# EAGLE library part PGA2040 (library pimoroni-boards)
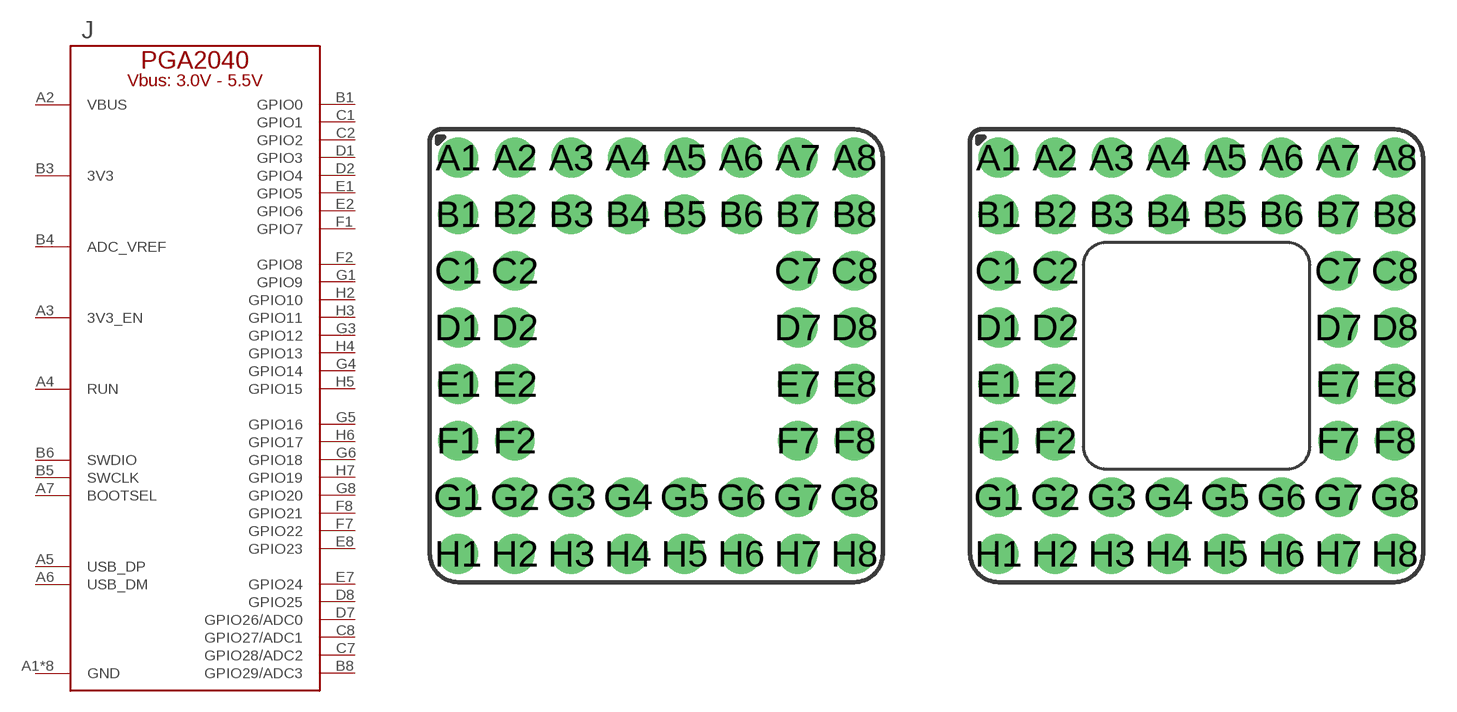
[diagram p1: symbol with the pads of PGA2040_PTH_NO_SLOT; footprints PGA2040_PTH_NO_SLOT, PGA2040_PTH_WITH_SLOT]

Designator prefix J

## PGA2040_PTH_NO_SLOT  [PGA2040_PTH_NO_SLOT]
A1  GND
A2  VBUS
A3  3V3_EN
A4  RUN
A5  USB_DP
A6  USB_DM
A7  BOOTSEL
A8  GND
B1  GPIO0
B2  GND
B3  3V3
B4  ADC_VREF
B5  SWCLK
B6  SWDIO
B7  GND
B8  GPIO29/ADC3
C1  GPIO1
C2  GPIO2
C7  GPIO28/ADC2
C8  GPIO27/ADC1
D1  GPIO3
D2  GPIO4
D7  GPIO26/ADC0
D8  GPIO25
E1  GPIO5
E2  GPIO6
E7  GPIO24
E8  GPIO23
F1  GPIO7
F2  GPIO8
F7  GPIO22
F8  GPIO21
G1  GPIO9
G2  GND
G3  GPIO12
G4  GPIO14
G5  GPIO16
G6  GPIO18
G7  GND
G8  GPIO20
H1  GND
H2  GPIO10
H3  GPIO11
H4  GPIO13
H5  GPIO15
H6  GPIO17
H7  GPIO19
H8  GND

## PGA2040_PTH_WITH_SLOT  [PGA2040_PTH_WITH_SLOT]
Pads as for PGA2040_PTH_NO_SLOT

## PGA2040_SMT_WITH_SLOT  [PGA2040_SMT_WITH_SLOT]
Pads as for PGA2040_PTH_NO_SLOT

## Footprint PGA2040_PTH_NO_SLOT (pad centres in mm)
drill 1.016 pad 1.778: A1 -8.89,8.89; A2 -6.35,8.89; A3 -3.81,8.89; A4 -1.27,8.89; A5 1.27,8.89; A6 3.81,8.89; A7 6.35,8.89; A8 8.89,8.89; B1 -8.89,6.35; B2 -6.35,6.35; B3 -3.81,6.35; B4 -1.27,6.35; B5 1.27,6.35; B6 3.81,6.35; B7 6.35,6.35; B8 8.89,6.35; C1 -8.89,3.81; C2 -6.35,3.81; C7 6.35,3.81; C8 8.89,3.81; D1 -8.89,1.27; D2 -6.35,1.27; D7 6.35,1.27; D8 8.89,1.27; E1 -8.89,-1.27; E2 -6.35,-1.27; E7 6.35,-1.27; E8 8.89,-1.27; F1 -8.89,-3.81; F2 -6.35,-3.81; F7 6.35,-3.81; F8 8.89,-3.81; G1 -8.89,-6.35; G2 -6.35,-6.35; G3 -3.81,-6.35; G4 -1.27,-6.35; G5 1.27,-6.35; G6 3.81,-6.35; G7 6.35,-6.35; G8 8.89,-6.35; H1 -8.89,-8.89; H2 -6.35,-8.89; H3 -3.81,-8.89; H4 -1.27,-8.89; H5 1.27,-8.89; H6 3.81,-8.89; H7 6.35,-8.89; H8 8.89,-8.89

## Footprint PGA2040_PTH_WITH_SLOT (pad centres in mm)
drill 1.016 pad 1.778: A1 -8.89,8.89; A2 -6.35,8.89; A3 -3.81,8.89; A4 -1.27,8.89; A5 1.27,8.89; A6 3.81,8.89; A7 6.35,8.89; A8 8.89,8.89; B1 -8.89,6.35; B2 -6.35,6.35; B3 -3.81,6.35; B4 -1.27,6.35; B5 1.27,6.35; B6 3.81,6.35; B7 6.35,6.35; B8 8.89,6.35; C1 -8.89,3.81; C2 -6.35,3.81; C7 6.35,3.81; C8 8.89,3.81; D1 -8.89,1.27; D2 -6.35,1.27; D7 6.35,1.27; D8 8.89,1.27; E1 -8.89,-1.27; E2 -6.35,-1.27; E7 6.35,-1.27; E8 8.89,-1.27; F1 -8.89,-3.81; F2 -6.35,-3.81; F7 6.35,-3.81; F8 8.89,-3.81; G1 -8.89,-6.35; G2 -6.35,-6.35; G3 -3.81,-6.35; G4 -1.27,-6.35; G5 1.27,-6.35; G6 3.81,-6.35; G7 6.35,-6.35; G8 8.89,-6.35; H1 -8.89,-8.89; H2 -6.35,-8.89; H3 -3.81,-8.89; H4 -1.27,-8.89; H5 1.27,-8.89; H6 3.81,-8.89; H7 6.35,-8.89; H8 8.89,-8.89

## Footprint PGA2040_SMT_WITH_SLOT (pad centres in mm)
smd 1.778 x 1.778: A1 -8.89,8.89; A2 -6.35,8.89; A3 -3.81,8.89; A4 -1.27,8.89; A5 1.27,8.89; A6 3.81,8.89; A7 6.35,8.89; A8 8.89,8.89; B1 -8.89,6.35; B2 -6.35,6.35; B3 -3.81,6.35; B4 -1.27,6.35; B5 1.27,6.35; B6 3.81,6.35; B7 6.35,6.35; B8 8.89,6.35; C1 -8.89,3.81; C2 -6.35,3.81; C7 6.35,3.81; C8 8.89,3.81; D1 -8.89,1.27; D2 -6.35,1.27; D7 6.35,1.27; D8 8.89,1.27; E1 -8.89,-1.27; E2 -6.35,-1.27; E7 6.35,-1.27; E8 8.89,-1.27; F1 -8.89,-3.81; F2 -6.35,-3.81; F7 6.35,-3.81; F8 8.89,-3.81; G1 -8.89,-6.35; G2 -6.35,-6.35; G3 -3.81,-6.35; G4 -1.27,-6.35; G5 1.27,-6.35; G6 3.81,-6.35; G7 6.35,-6.35; G8 8.89,-6.35; H1 -8.89,-8.89; H2 -6.35,-8.89; H3 -3.81,-8.89; H4 -1.27,-8.89; H5 1.27,-8.89; H6 3.81,-8.89; H7 6.35,-8.89; H8 8.89,-8.89